# Altium integrated library SPU0410LR5H-QB-7.IntLib: 1 symbol
Pins are listed as number, name and electrical type; pins without a type are passive.

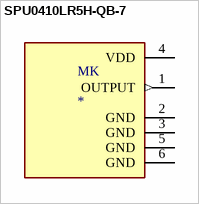
[diagram p0: symbol SPU0410LR5H-QB-7]

## SPU0410LR5H-QB-7
designator MK
100Hz ~ 80kHz Analog Microphone MEMS _Silicon_ 1.5V ~ 3.6V Omnidirectional _-38dB Â±3dB @ 94dB SPL_ Solder Pads; MP: SPU0410LR5H-QB-7; MF: Knowles; Price: None; Package: 2225 Knowles; Value: *; Availability: Unavailable; SnapEDA_Link: https://www.snapeda.com/parts/SPU0410LR5H-QB-7/Knowles/view-part/587749/?ref=snap
footprint MIC_SPU0410LR5H-QB-7
pins: 1 OUTPUT (out), 2 GND (power), 3 GND (power), 4 VDD (power), 5 GND (power), 6 GND (power)